# Altium footprint library TENSILITY_54-00176.PcbLib: 1 footprints
Each footprint in its own frame and in the unit in brackets; x right, y up, seen from the top. Pads: shape width x height; smd on the part's side, far side on the other; paste and mask are expansions set on the pad; w line width, h text height; cw(c..) or ccw(c..) is an arc to the next point about the centre after c.
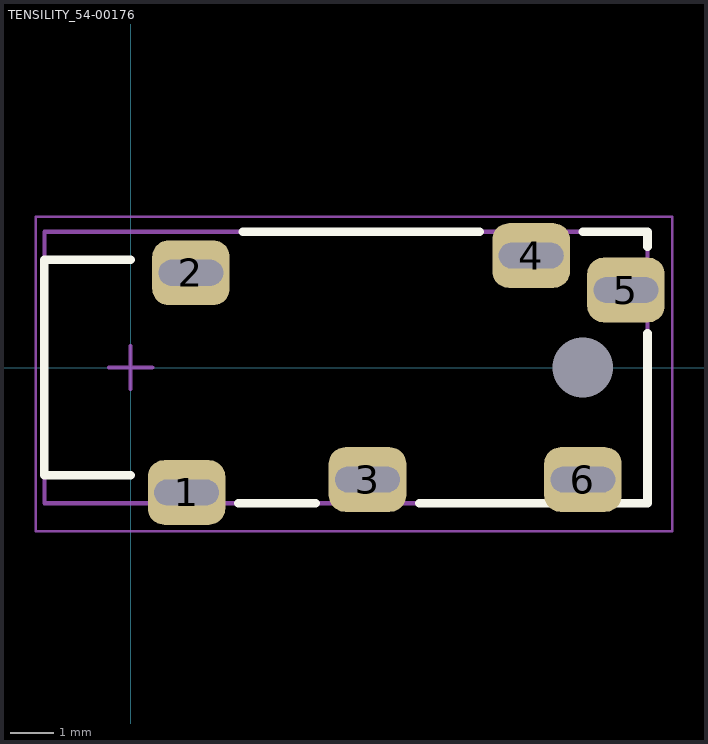
[diagram p0: the footprint, top view; thin cyan lines are the x and y axes]

## TENSILITY_54-00176 [mm]
height 4.3
pads (7):
  rrect50% 1.8x1.5 hole 0.6 slot 1.5 at 0 deg mask+0.05: 1(1.3,-2.9) 2(1.4,2.2) 3(5.5,-2.6) 4(9.3,2.6) 5(11.5,1.8) 6(10.5,-2.6)
  round 0 hole 1.4 mask+0.05: ""(10.5,0)
Top Overlay:
  lines w0.2: 0,-2.5 -2,-2.5 -2,2.5 0,2.5 ; 2.5,-3.15 4.3,-3.15 ; 2.6,3.15 8.1,3.15 ; 6.7,-3.15 12,-3.15 ; 10.5,3.15 12,3.15 12,2.8 ; 11.7,-3.15 12,-3.15 ; 12,0.8 12,-3.15
Mechanical 13 (Mech13):
  lines w0.1: -2,-3.15 -2,3.15 12,3.15 12,-3.15 -2,-3.15
Mechanical 15:
  lines w0.05: -2.2,-3.8 12.573,-3.8 12.573,3.5 -2.2,3.5 -2.2,-3.8
  lines w0.1: -0.5,0 0.5,0 ; 0,-0.5 0,0.5
3D body "TENSILITY_54-00176.STEP": height 4.36, standoff -1.98, extent -2,-3.15 12,3.15